# EAGLE library part ATTINY13A-SSU (library ATTINY13A-SSU)
IC, 8BIT MCU, AVR TINY, 20MHZ, 8-SOIC
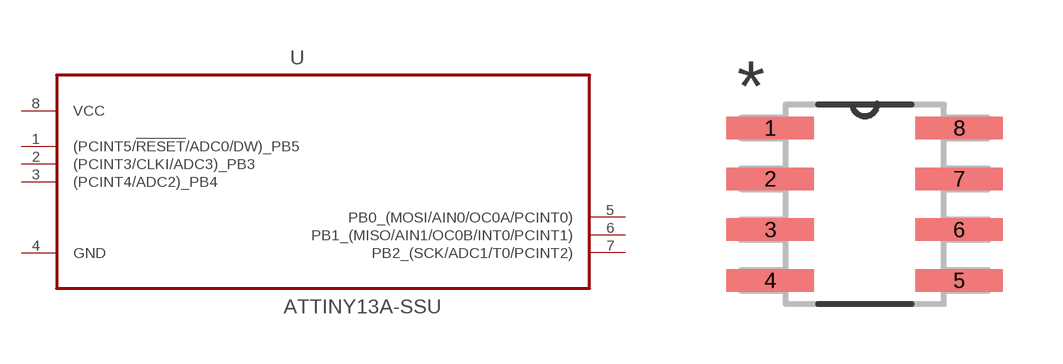
[diagram p0: symbol with the pads of SOIC127P600X175-8N; footprint SOIC127P600X175-8N]

Designator prefix U

## ATTINY13A-SSU (MPN: ATTINY13A-SSU; OC_FARNELL: 1704567; OC_NEWARK: 68T3508; PACKAGE: 8-SOIC; SUPPLIER: ATMEL)  [SOIC127P600X175-8N]
1  (PCINT5/!RESET!/ADC0/DW)_PB5
2  (PCINT3/CLKI/ADC3)_PB3
3  (PCINT4/ADC2)_PB4
4  GND  pwr
5  PB0_(MOSI/AIN0/OC0A/PCINT0)
6  PB1_(MISO/AIN1/OC0B/INT0/PCINT1)
7  PB2_(SCK/ADC1/T0/PCINT2)
8  VCC  pwr

## Footprint SOIC127P600X175-8N (pad centres in mm)
smd 2.184 x 0.559: 1 -2.362,1.905; 2 -2.362,0.635; 3 -2.362,-0.635; 4 -2.362,-1.905; 5 2.362,-1.905; 6 2.362,-0.635; 7 2.362,0.635; 8 2.362,1.905